# EAGLE library part TL7700 (library Traficon)
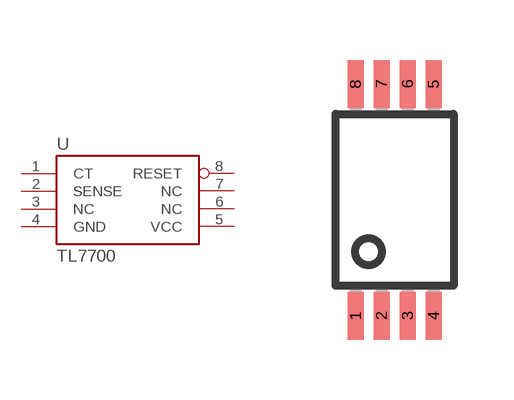
[diagram p203: symbol with the pads of SO8; footprint SO8]

Designator prefix U

## TL7700CPW  [SO8]
1  CT  pas
2  SENSE  in
3  NC  nc
4  GND  sup
5  VCC  sup
6  NC  nc
7  NC  nc
8  RESET  oc

## Footprint SO8 (pad centres in mm)
PLASTIC SMALL-OUTLINE PACKAGE, SO 8 JEDEC MO-153 Source: www.ti.com/.. slvs087l.pdf
smd 0.4 x 1.2: 1 -0.975,-2.9; 2 -0.325,-2.9; 3 0.325,-2.9; 4 0.975,-2.9; 5 0.975,2.9; 6 0.325,2.9; 7 -0.325,2.9; 8 -0.975,2.9